# Altium footprint library PcbLib.PcbLib: 2 footprints
Each footprint in its own frame and in the unit in brackets; x right, y up, seen from the top. Pads: shape width x height; smd on the part's side, far side on the other; paste and mask are expansions set on the pad; w line width, h text height; cw(c..) or ccw(c..) is an arc to the next point about the centre after c.
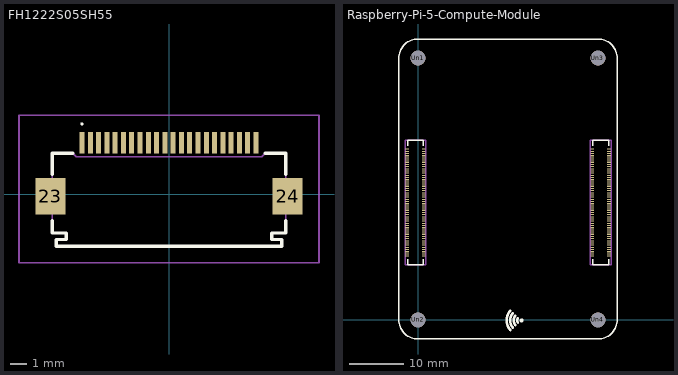
[diagram p0: the footprints below, top view; thin cyan lines are the x and y axes]

## FH1222S05SH55 [mm]
pads (24):
  rect 0.3x1.3 smd: 1(-5.25,3.125) 2(-4.75,3.125) 3(-4.25,3.125) 4(-3.75,3.125) 5(-3.25,3.125) 6(-2.75,3.125) 7(-2.25,3.125) 8(-1.75,3.125) 9(-1.25,3.125) 10(-0.75,3.125) 11(-0.25,3.125) 12(0.25,3.125) 13(0.75,3.125) 14(1.25,3.125) 15(1.75,3.125) 16(2.25,3.125) 17(2.75,3.125) 18(3.25,3.125) 19(3.75,3.125) 20(4.25,3.125) 21(4.75,3.125) 22(5.25,3.125)
  rect 1.8x2.2 smd: 23(-7.15,-0.125) 24(7.15,-0.125)
Top Overlay:
  lines w0.1: -5.25,4.2 cw(c-5.25,4.25) -5.25,4.3 cw(c-5.25,4.25) -5.25,4.2
  lines w0.2: -7.05,-1.6 -7.05,-2.325 -6.2,-2.325 -6.2,-2.725 -6.8,-2.725 -6.8,-3.125 6.8,-3.125 6.8,-2.725 6.2,-2.725 6.2,-2.325 7.05,-2.325 7.05,-1.6 ; -7.05,1.2 -7.05,2.475 -5.8,2.475 ; 5.8,2.475 7.05,2.475 7.05,1.2
Mechanical 15:
  lines w0.1: -7.05,-2.325 -7.05,2.475 -5.8,2.475 -5.6,2.275 0,2.275 5.6,2.275 5.8,2.475 7.05,2.475 7.05,-2.325 6.2,-2.325 6.2,-2.725 6.8,-2.725 6.8,-3.125 -6.8,-3.125 -6.8,-2.725 -6.2,-2.725 -6.2,-2.325 -7.05,-2.325
Mechanical 20:
  lines w0.1: -9.05,-4.125 -9.05,4.775 9.05,4.775 9.05,-4.125 -9.05,-4.125
3D body "FH12-22S-0.5SH_55_.stp": height 2.3, standoff 0, extent -7.87,-3.125 7.87,3.745

## Raspberry-Pi-5-Compute-Module [mm]
pads (204):
  rect 0.7x0.2 smd: 1(-2.04,31.3) 2(1.04,31.3) 3(-2.04,30.9) 4(1.04,30.9) 5(-2.04,30.5) 6(1.04,30.5) 7(-2.04,30.1) 8(1.04,30.1) 9(-2.04,29.7) 10(1.04,29.7) 11(-2.04,29.3) 12(1.04,29.3) 13(-2.04,28.9) 14(1.04,28.9) 15(-2.04,28.5) 16(1.04,28.5) 17(-2.04,28.1) 18(1.04,28.1) 19(-2.04,27.7) 20(1.04,27.7) 21(-2.04,27.3) 22(1.04,27.3) 23(-2.04,26.9) 24(1.04,26.9) 25(-2.04,26.5) 26(1.04,26.5) 27(-2.04,26.1) 28(1.04,26.1) 29(-2.04,25.7) 30(1.04,25.7) 31(-2.04,25.3) 32(1.04,25.3) 33(-2.04,24.9) 34(1.04,24.9) 35(-2.04,24.5) 36(1.04,24.5) 37(-2.04,24.1) 38(1.04,24.1) 39(-2.04,23.7) 40(1.04,23.7) 41(-2.04,23.3) 42(1.04,23.3) 43(-2.04,22.9) 44(1.04,22.9) 45(-2.04,22.5) 46(1.04,22.5) 47(-2.04,22.1) 48(1.04,22.1) 49(-2.04,21.7) 50(1.04,21.7) 51(-2.04,21.3) 52(1.04,21.3) 53(-2.04,20.9) 54(1.04,20.9) 55(-2.04,20.5) 56(1.04,20.5) 57(-2.04,20.1) 58(1.04,20.1) 59(-2.04,19.7) 60(1.04,19.7) 61(-2.04,19.3) 62(1.04,19.3) 63(-2.04,18.9) 64(1.04,18.9) 65(-2.04,18.5) 66(1.04,18.5) 67(-2.04,18.1) 68(1.04,18.1) 69(-2.04,17.7) 70(1.04,17.7) 71(-2.04,17.3) 72(1.04,17.3) 73(-2.04,16.9) 74(1.04,16.9) 75(-2.04,16.5) 76(1.04,16.5) 77(-2.04,16.1) 78(1.04,16.1) 79(-2.04,15.7) 80(1.04,15.7) 81(-2.04,15.3) 82(1.04,15.3) 83(-2.04,14.9) 84(1.04,14.9) 85(-2.04,14.5) 86(1.04,14.5) 87(-2.04,14.1) 88(1.04,14.1) 89(-2.04,13.7) 90(1.04,13.7) 91(-2.04,13.3) 92(1.04,13.3) 93(-2.04,12.9) 94(1.04,12.9) 95(-2.04,12.5) 96(1.04,12.5) 97(-2.04,12.1) 98(1.04,12.1) 99(-2.04,11.7) 100(1.04,11.7) 101(31.96,31.3) 102(35.04,31.3) 103(31.96,30.9) 104(35.04,30.9) 105(31.96,30.5) 106(35.04,30.5) 107(31.96,30.1) 108(35.04,30.1) 109(31.96,29.7) 110(35.04,29.7) 111(31.96,29.3) 112(35.04,29.3) 113(31.96,28.9) 114(35.04,28.9) 115(31.96,28.5) 116(35.04,28.5) 117(31.96,28.1) 118(35.04,28.1) 119(31.96,27.7) 120(35.04,27.7) 121(31.96,27.3) 122(35.04,27.3) 123(31.96,26.9) 124(35.04,26.9) 125(31.96,26.5) 126(35.04,26.5) 127(31.96,26.1) 128(35.04,26.1) 129(31.96,25.7) 130(35.04,25.7) 131(31.96,25.3) 132(35.04,25.3) 133(31.96,24.9) 134(35.04,24.9) 135(31.96,24.5) 136(35.04,24.5) 137(31.96,24.1) 138(35.04,24.1) 139(31.96,23.7) 140(35.04,23.7) 141(31.96,23.3) 142(35.04,23.3) 143(31.96,22.9) 144(35.04,22.9) 145(31.96,22.5) 146(35.04,22.5) 147(31.96,22.1) 148(35.04,22.1) 149(31.96,21.7) 150(35.04,21.7) 151(31.96,21.3) 152(35.04,21.3) 153(31.96,20.9) 154(35.04,20.9) 155(31.96,20.5) 156(35.04,20.5) 157(31.96,20.1) 158(35.04,20.1) 159(31.96,19.7) 160(35.04,19.7) 161(31.96,19.3) 162(35.04,19.3) 163(31.96,18.9) 164(35.04,18.9) 165(31.96,18.5) 166(35.04,18.5) 167(31.96,18.1) 168(35.04,18.1) 169(31.96,17.7) 170(35.04,17.7) 171(31.96,17.3) 172(35.04,17.3) 173(31.96,16.9) 174(35.04,16.9) 175(31.96,16.5) 176(35.04,16.5) 177(31.96,16.1) 178(35.04,16.1) 179(31.96,15.7) 180(35.04,15.7) 181(31.96,15.3) 182(35.04,15.3) 183(31.96,14.9) 184(35.04,14.9) 185(31.96,14.5) 186(35.04,14.5) 187(31.96,14.1) 188(35.04,14.1) 189(31.96,13.7) 190(35.04,13.7) 191(31.96,13.3) 192(35.04,13.3) 193(31.96,12.9) 194(35.04,12.9) 195(31.96,12.5) 196(35.04,12.5) 197(31.96,12.1) 198(35.04,12.1) 199(31.96,11.7) 200(35.04,11.7)
  round 2.7 hole 2.7: Un1(0,48) Un2(0,0) Un3(33,48) Un4(33,0)
Top Overlay:
  drawing of 25 lines, arcs and shapes, not listed
Mechanical 4:
  lines w0.254: -2.31,10.1 1.39,10.1 1.39,32.9 -2.31,32.9 -2.31,10.1 ; 31.61,10.1 35.39,10.1 35.39,32.9 31.61,32.9 31.61,10.1
3D body "CM5liteR5-3dstep.step": height 3.87, standoff -0.75, extent -3.399,-3.581 36.601,51.419
3D body "10164227-1001a1rlf.stp": height 1.41, standoff -0.04, extent 31.787,10.188 35.167,32.788
3D body "10164227-1001a1rlf.stp": height 1.46, standoff 0.01, extent -2.198,10.214 1.182,32.814